# EAGLE library part ST1S10 (library odroid_shield)
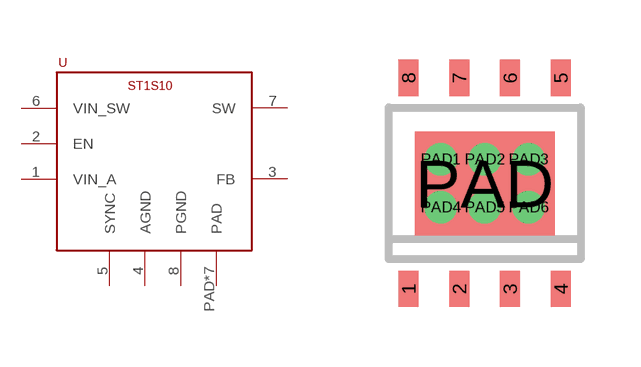
[diagram p2: symbol with the pads of POWER_SO8; footprint POWER_SO8]

Designator prefix -

## ST1S10  [POWER_SO8]
1  VIN_A
2  EN
3  FB
4  AGND
5  SYNC
6  VIN_SW
7  SW
8  PGND
PAD  PAD
PAD1  PAD
PAD2  PAD
PAD3  PAD
PAD4  PAD
PAD5  PAD
PAD6  PAD

## Footprint POWER_SO8 (pad centres in mm)
Small Outline Narrow Plastic Gull Wing 150-mil body, package type SN
smd 0.5 x 0.9: 1 -1.905,-2.64; 2 -0.635,-2.64; 3 0.635,-2.64; 4 1.905,-2.64; 5 1.905,2.64; 6 0.635,2.64; 7 -0.635,2.64; 8 -1.905,2.64
smd 3.5 x 2.6: PAD 0,0
drill 0.305: PAD1 -1.1,0.6; PAD2 0,0.6; PAD3 1.1,0.6; PAD4 -1.1,-0.6; PAD5 0,-0.6; PAD6 1.1,-0.6